# Altium footprint library PcbLib1.PcbLib: 5 footprints
Each footprint in its own frame and in the unit in brackets; x right, y up, seen from the top. Pads: shape width x height; smd on the part's side, far side on the other; paste and mask are expansions set on the pad; w line width, h text height; cw(c..) or ccw(c..) is an arc to the next point about the centre after c.
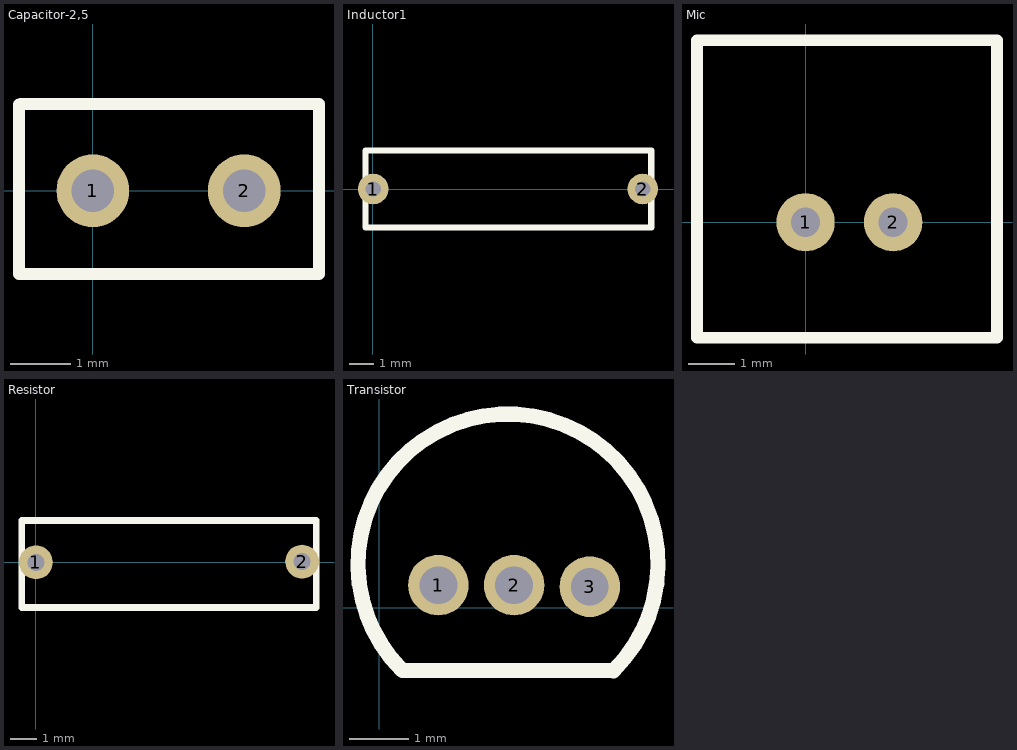
[diagram p0: the footprints below, top view; thin cyan lines are the x and y axes]

## Capacitor-2,5 [mm]
pads (2):
  round 1.2 hole 0.7: 1(0,0) 2(2.5,0)
Top Overlay:
  lines w0.2: -1.219,1.422 -1.219,-1.372 1.128,-1.372 3.628,-1.372 3.734,-1.372 3.734,1.43 2.734,1.43 1.866,1.43 0.13,1.43 -0.738,1.43 -1.194,1.43
3D body "10pF Ceramic Disc 2.SLDPRT": height 7.43, standoff -6.6, extent -1.074,-1.25 3.615,1.25

## Inductor1 [mil]
pads (2):
  round 50 hole 25: 1(1,0) 2(441,0)
Top Overlay:
  lines w10: -12,-63 -12,-54 -12,63 455,63 455,-63 -12,-63
3D body "IND_BOURNS_78F.step": height 140.04, standoff -70, extent -9,-55.2 451,55

## Mic [mil]
pads (2):
  round 50 hole 25: 1(0,0) 2(75,0)
Top Overlay:
  lines w10: -93,-99 164,-99 164,156 -93,156 -93,1 -93,-99
3D body "MIC POM-2738P-R.STEP": height 113.94, standoff -106.54, extent -81.1,-87.11 155.11,149.11

## Resistor [mil]
pads (2):
  round 50 hole 25: 1(0,0) 2(394,1)
Top Overlay:
  lines w10: -21,60 -21,-67 415,-67 415,62 -21,62
3D body "Resistor_Ñ1-4_horizontal_0.25W_10pitch.stp": height 98.43, standoff -118.11, extent -11.32,-44.19 406,46.19

## Transistor [mil]
pads (3):
  round 40 hole 25: 1(39,15) 2(89,15) 3(139,14)
Top Overlay:
  lines w10: 154.55,-41.37 15.33,-41.37 cw(c85,29) 154.61,-41.43
3D body "trans v1.step": height 280.31, standoff -469.69, extent -1.16,-30.31 179.16,100